# Altium schematic symbol library Components - 17.09.21 - 11.53.SchLib: 1 symbol
Pins are listed as number, name and electrical type; pins without a type are passive.

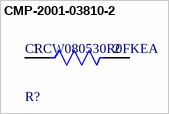
[diagram p0: symbol CMP-2001-03810-2]

## CMP-2001-03810-2
designator R?, comment CRCW080530R0FKEA
RES SMD 30 OHM 1% 1/8W 0805; Manufacturer: Vishay; Temperature Coefficient: 100ppm/°C; Voltage Rating: 150V; Automotive Grade: Grade 0; Resistance: 30Ω; Power Rating: 0.125W; Value: 30Ω; Category: Res; Octopart: https://octopart.com/crcw080530r0fkea-vishay-39861726; Height: 0.5mm; Automotive: Yes; Mouser Description: Thick Film Resistors - SMD 1/8watt 30ohms 1%; Series: CRCW; Temperature Range Low: -55°C; Device Class L1: Passive Components; Device Class L2: Resistors; Lead Free: Yes; Package: CRCW0805-e3; Tolerance: 1%; Ipc Land Pattern Name: RESC200125X45; Manufacturer Part Number: CRCW080530R0FKEA; Temperature: -55°C to +155°C; RoHS: TRUE; Temperature Range High: +155°C; Device Class L3: Chip SMD Resistors; ComponentLink2Description: Datasheet; Composition: Thick Film; ComponentLink2URL: https://www.vishay.com/docs/20035/dcrcwe3.pdf; Digikey Description: RES SMD 30 OHM 1% 1/8W 0805
footprint FP-CRCW0805-e3-IPC_A
footprint FP-CRCW0805-e3-IPC_B
footprint FP-CRCW0805-e3-IPC_C
footprint FP-CRCW0805-e3-MFG
pins: 1, 2